# EAGLE library part 74LVC573APW (library pixel)
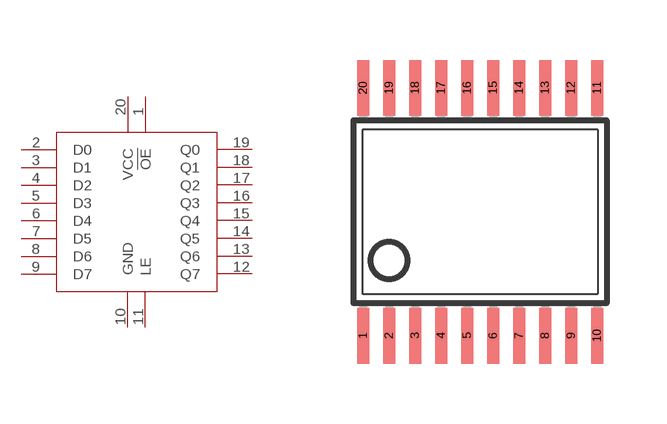
[diagram p9: symbol with the pads of TSSOP20-LL; footprint TSSOP20-LL]

Designator prefix -

## 74LVC573APW  [TSSOP20-LL]
1  !OE
2  D0
3  D1
4  D2
5  D3
6  D4
7  D5
8  D6
9  D7
10  GND
11  LE
12  Q7
13  Q6
14  Q5
15  Q4
16  Q3
17  Q2
18  Q1
19  Q0
20  VCC

## Footprint TSSOP20-LL (pad centres in mm)
Thin Shrink Small Outline Plastic 20 MAX3223-MAX3243.pdf
smd 0.3 x 1.4: 1 -2.925,-3.1; 2 -2.275,-3.1; 3 -1.625,-3.1; 4 -0.975,-3.1; 5 -0.325,-3.1; 6 0.325,-3.1; 7 0.975,-3.1; 8 1.625,-3.1; 9 2.275,-3.1; 10 2.925,-3.1; 11 2.925,3.1; 12 2.275,3.1; 13 1.625,3.1; 14 0.975,3.1; 15 0.325,3.1; 16 -0.325,3.1; 17 -0.975,3.1; 18 -1.625,3.1; 19 -2.275,3.1; 20 -2.925,3.1